# Altium integrated library 4_connector.IntLib: 1 symbol
Pins are listed as number, name and electrical type; pins without a type are passive.

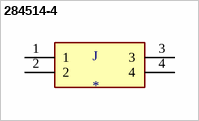
[diagram p0: symbol 284514-4]

## 284514-4
designator J
4 Position Terminal Block Header, Male Pins, Shrouded _4 Side_ 0.138 _3.50mm_ Vertical Through Hole; Centerline_Pitch: 3.5 mm[.138 in]; MF: TE Connectivity; Number_of_Positions: 4; MP: 284514-4; EU_RoHS_Compliance: Compliant; Price: None; TE_purchase_URL: https://www.te.com/usa-en/product-284514-4.html?te_bu=Cor&te_type=disp&te_campaign=seda_glo_cor-seda-global-disp-prtnr-fy19-seda-model-bom-cta_sma-317_1&elqCampaignId=32493; Package: None; Availability: Unavailable; SnapEDA_Link: https://www.snapeda.com/parts/284514-4/TE%20Connectivity%20AMP%20Connectors/view-part/589915/?ref=snap; Value: *
footprint TE_284514-4
pins: 1, 2, 3, 4